# EAGLE library part XIAO-SAMD21 (library PA(EN)_Components_Library)
Seeed Studio XIAO SAMD21 - Microchip ATSAMD21G18 Arduino Microcontroller - 32-bit 48MHz ARM® Cortex® M0+ processor （Seeeduino XIAO) Seeed SKU: 102010328 Seeed Studio XIAO SAMD21 is the smallest Arduino compatible board in Seeeduino Family. It is an Arduino microcontroller that is embedded with the SAMD21 microchip. The interfaces of Seeed Studio XIAO SAMD21 are rich for such a tiny development board and the castellated hole design facilitates automated SMD assembly. Buy now <https://www.seeedstudio.com/Seeeduino-XIAO-Arduino-Microcontroller-SAMD21-Cortex-M0+-p-4426.html> Wiki <https://wiki.seeedstudio.com/Seeeduino-XIAO/>
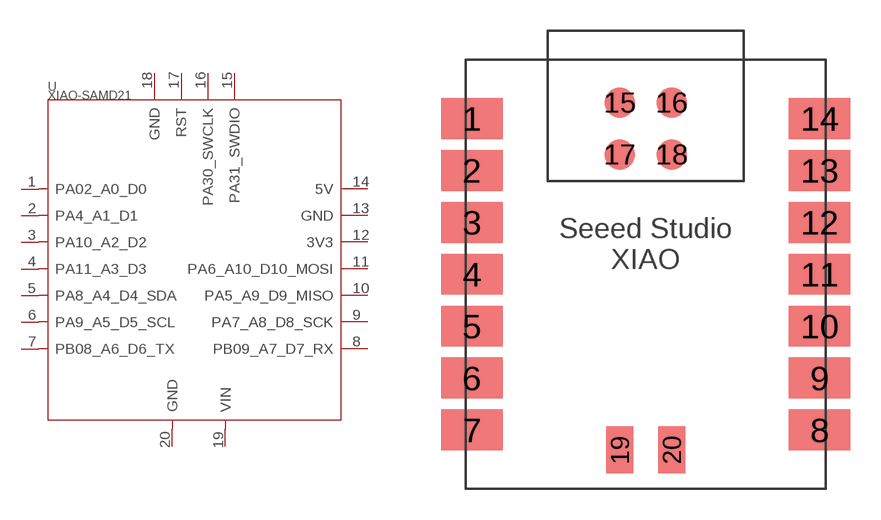
[diagram p33: symbol with the pads of XIAO-SAMD21/RP2040-MODULE14P-2.54-21X17.8MM; footprint XIAO-SAMD21/RP2040-MODULE14P-2.54-21X17.8MM]

Designator prefix U

## XIAO-SAMD21  [XIAO-SAMD21/RP2040-MODULE14P-2.54-21X17.8MM]
1  PA02_A0_D0
2  PA4_A1_D1
3  PA10_A2_D2
4  PA11_A3_D3
5  PA8_A4_D4_SDA
6  PA9_A5_D5_SCL
7  PB08_A6_D6_TX
8  PB09_A7_D7_RX
9  PA7_A8_D8_SCK
10  PA5_A9_D9_MISO
11  PA6_A10_D10_MOSI
12  3V3
13  GND
14  5V
15  PA31_SWDIO
16  PA30_SWCLK
17  RST
18  GND
19  VIN
20  GND

## Footprint XIAO-SAMD21/RP2040-MODULE14P-2.54-21X17.8MM (pad centres in mm)
smd 3 x 2: 1 -8.5,7.62; 2 -8.5,5.08; 3 -8.5,2.54; 4 -8.5,0; 5 -8.5,-2.54; 6 -8.5,-5.08; 7 -8.5,-7.62; 8 8.5,-7.62; 9 8.5,-5.08; 10 8.5,-2.54; 11 8.5,0; 12 8.5,2.54; 13 8.5,5.08; 14 8.5,7.62
smd 1.5 x 1.5: 15 -1.27,8.39; 16 1.27,8.39; 17 -1.27,5.85; 18 1.27,5.85
smd 1.3 x 2.3: 19 -1.27,-8.6; 20 1.27,-8.6